# EAGLE library part TC77 (library Next_Make_REX_2016)
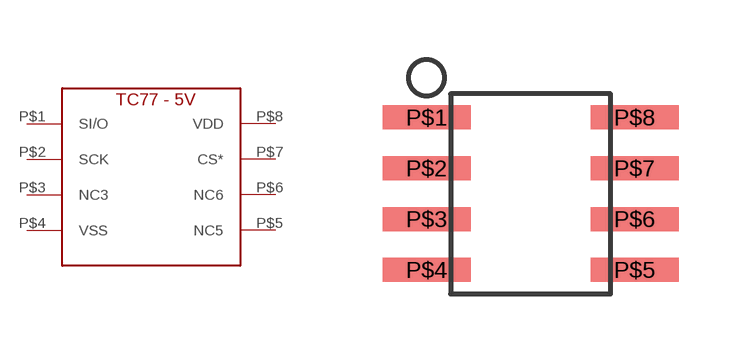
[diagram p4: symbol with the pads of SOIC-8; footprint SOIC-8]

Designator prefix -

## TC77  [SOIC-8]
P$1  SI/O
P$2  SCK
P$3  NC3
P$4  VSS
P$5  NC5
P$6  NC6
P$7  CS*
P$8  VDD

## Footprint SOIC-8 (pad centres in mm)
smd 2.2 x 0.6: P$1 0,3.81; P$2 0,2.54; P$3 0,1.27; P$4 0,0; P$5 5.2,0; P$6 5.2,1.27; P$7 5.2,2.54; P$8 5.2,3.81